# Altium schematic symbol library HDR_fszhang.SchLib: 49 symbols
Pins are listed as number, name and electrical type; pins without a type are passive.

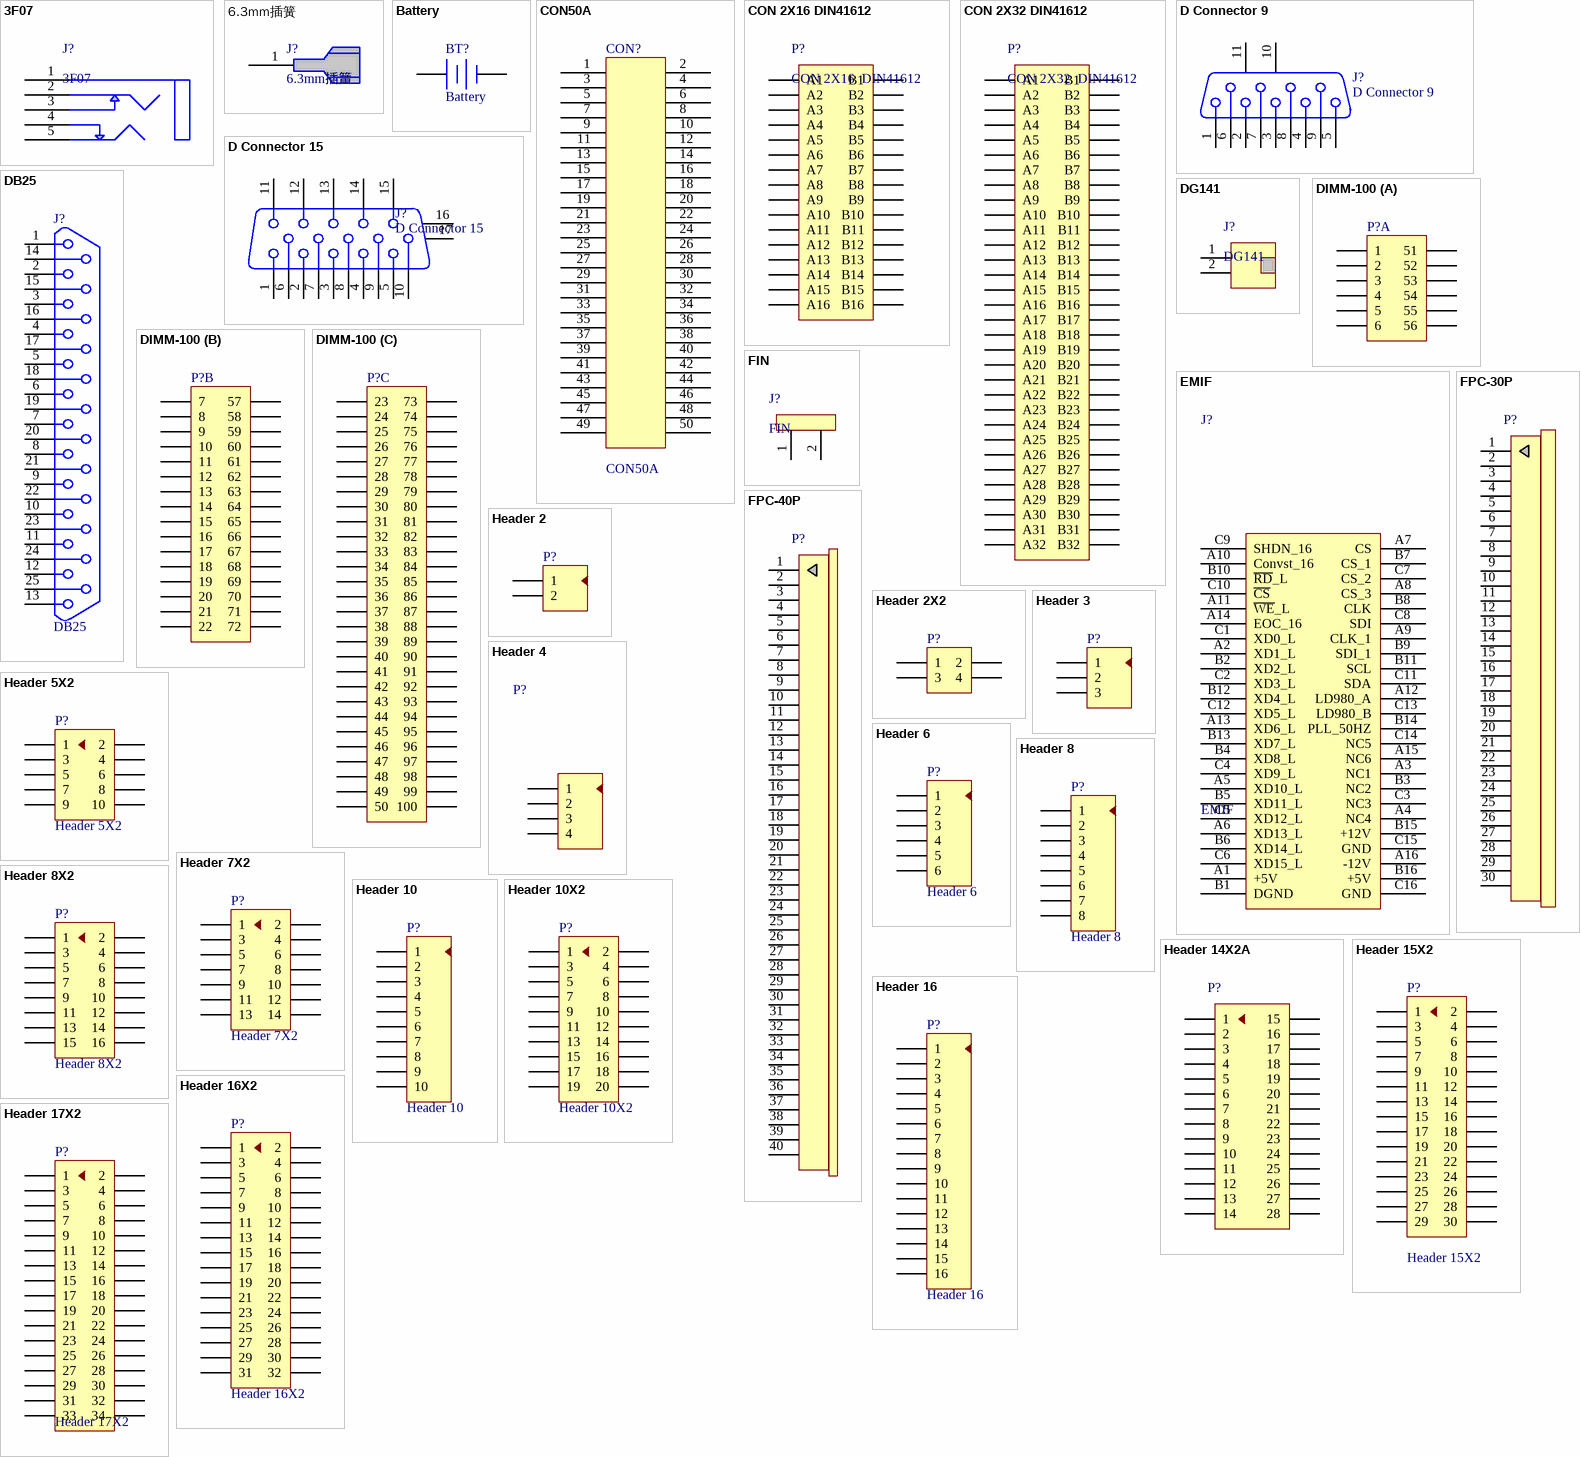
[diagram p0: symbols 3F07 to Header 17X2]

## 3F07
designator J?
立体声耳机插座
footprint 3F07 (立体声耳机插座)
pins: 1 COM, 2 R1, 3 R2, 4 L2, 5 L1

## 6.3mm插簧
designator J?
pins: 1

## Battery
designator BT?
备份电池; Published: 24-Mar-1999; LatestRevisionDate: 17-Jul-2002; LatestRevisionNote: Re-released for DXP Platform.; PackageReference: BAT-2; Publisher: Altium Limited
footprint CR1220 (钮扣电池)
pins: 1 +, 2 -

## CON50A
designator CON?
Remark: 0.5mm 50P B2B 3.5mm合高 母头
footprint B2B_0D50_50P_MALE
pins: 1, 2, 3, 4, 5, 6, 7, 8, 9, 10, 11, 12, 13, 14, 15, 16, 17, 18, 19, 20, 21, 22, 23, 24, 25, 26, 27, 28, 29, 30, 31, 32, 33, 34, 35, 36, 37, 38, 39, 40, 41, 42, 43, 44, 45, 46, 47, 48, 49, 50
2 alternate drawings of the same symbol

## CON 2X16 DIN41612
designator P?, comment CON 2X16  DIN41612
DIN 41612
footprint EURO2.54-2H32D (Connector; DIN 41612, Type 2B, Thru-Hole; Rows a+b, 32 Position; Right Angle)
footprint EURO2.54-2V32B (Connector; DIN 41612, Type 2B, Thru-Hole; Rows a+b, 32 Position; Vertical)
pins: A1, A2, A3, A4, A5, A6, A7, A8, A9, A10, A11, A12, A13, A14, A15, A16, B1, B2, B3, B4, B5, B6, B7, B8, B9, B10, B11, B12, B13, B14, B15, B16

## CON 2X32 DIN41612
designator P?, comment CON 2X32  DIN41612
DIN 41612
footprint EURO2.54-2H64A (Connector; DIN 41612, Type B, Thru-Hole; Rows a+b, 64 Position; Right Angle)
footprint EURO2.54-2V64A (Connector; DIN 41612, Type B, Thru-Hole; Rows a+b, 64 Position; Vertical)
pins: A1, A2, A3, A4, A5, A6, A7, A8, A9, A10, A11, A12, A13, A14, A15, A16, A17, A18, A19, A20, A21, A22, A23, A24, A25, A26, A27, A28, A29, A30, A31, A32, B1, B2, B3, B4, B5, B6, B7, B8, B9, B10, B11, B12, B13, B14, B15, B16, B17, B18, B19, B20, B21, B22, B23, B24, B25, B26, B27, B28, B29, B30, B31, B32

## D Connector 9
designator J?
串口; PackageDocument: O; Positions: 9; Gender: Receptacle; Published: 15-Jun-2001; LatestRevisionDate: 17-Jul-2002; LatestRevisionNote: Re-released for DXP Platform.; DatasheetDocument: 1-Sep-1999; PackageReference: 788750; Publisher: Altium Limited; Orientation: Right Angle
footprint DB9-M (DB9公座)
footprint DB9-F (DB9母座)
pins: 1, 2, 3, 4, 5, 6, 7, 8, 9, 10 MH1, 11 MH2

## D Connector 15
designator J?
VGA; PackageDocument: O; Positions: 9; Gender: Receptacle; Published: 15-Jun-2001; LatestRevisionDate: 17-Jul-2002; LatestRevisionNote: Re-released for DXP Platform.; DatasheetDocument: 1-Sep-1999; PackageReference: 788750; Publisher: Altium Limited; Orientation: Right Angle
footprint DB15-M (VGA公)
footprint DB15-F (VGA母)
pins: 1, 2, 3, 4, 5, 6, 7, 8, 9, 10, 11, 12, 13, 14, 15, 16 MH2, 17 MH1

## DB25
designator J?
并口
footprint DB25
pins: 1, 2, 3, 4, 5, 6, 7, 8, 9, 10, 11, 12, 13, 14, 15, 16, 17, 18, 19, 20, 21, 22, 23, 24, 25

## DG141
designator J?
footprint DG141R-2.54 (接线端子)
pins: 1, 2

## DIMM-100
designator P?  (value not drawn)
接插件; LatestRevisionDate: 17-Jul-2002; LatestRevisionNote: Re-released for DXP Platform.; Publisher: Altium Limited
footprint DIMM1.27-100
part A pins: 1, 2, 3, 4, 5, 6, 51, 52, 53, 54, 55, 56
part B pins: 7, 8, 9, 10, 11, 12, 13, 14, 15, 16, 17, 18, 19, 20, 21, 22, 57, 58, 59, 60, 61, 62, 63, 64, 65, 66, 67, 68, 69, 70, 71, 72
part C pins: 23, 24, 25, 26, 27, 28, 29, 30, 31, 32, 33, 34, 35, 36, 37, 38, 39, 40, 41, 42, 43, 44, 45, 46, 47, 48, 49, 50, 73, 74, 75, 76, 77, 78, 79, 80, 81, 82, 83, 84, 85, 86, 87, 88, 89, 90, 91, 92, 93, 94, 95, 96, 97, 98, 99, 100

## EMIF
designator J?
接插件
footprint HDR16X3_HA
footprint HDR16X3_HB
pins: A1 +5V, A2 XD1_L, A3 NC1, A4 NC4, A5 XD10_L, A6 XD13_L, A7 CS, A8 CS_3, A9 CLK_1, A10 Convst_16, A11 ~{WE}_L, A12 LD980_A, A13 XD6_L, A14 EOC_16, A15 NC6, A16 -12V, B1 DGND, B2 XD2_L, B3 NC2, B4 XD8_L, B5 XD11_L, B6 XD14_L, B7 CS_1, B8 CLK, B9 SDI_1, B10 ~{RD}_L, B11 SCL, B12 XD4_L, B13 XD7_L, B14 PLL_50HZ, B15 +12V, B16 +5V, C1 XD0_L, C2 XD3_L, C3 NC3, C4 XD9_L, C5 XD12_L, C6 XD15_L, C7 CS_2, C8 SDI, C9 SHDN_16, C10 ~{CS}, C11 SDA, C12 XD5_L, C13 LD980_B, C14 NC5, C15 GND, C16 GND

## FIN
designator J?
散热片
footprint FIN-P2
pins: 1, 2

## FPC-30P
designator P?, comment FPC  (value not drawn)
FPC排线连接器
footprint FPC0.8-30P-A (FPC0.8mm接口)
pins: 1, 2, 3, 4, 5, 6, 7, 8, 9, 10, 11, 12, 13, 14, 15, 16, 17, 18, 19, 20, 21, 22, 23, 24, 25, 26, 27, 28, 29, 30

## FPC-40P
designator P?, comment FPC  (value not drawn)
FPC排线连接器
footprint FPC0.5-40P-A
pins: 1, 2, 3, 4, 5, 6, 7, 8, 9, 10, 11, 12, 13, 14, 15, 16, 17, 18, 19, 20, 21, 22, 23, 24, 25, 26, 27, 28, 29, 30, 31, 32, 33, 34, 35, 36, 37, 38, 39, 40

## Header 2
designator P?  (value not drawn)
接插件; LatestRevisionDate: 17-Jul-2002; LatestRevisionNote: Re-released for DXP Platform.; Publisher: Altium Limited
footprint KF2.54-2P (KF2.54端子)
footprint HDR2X1-2.54 (2.54单排针排座)
footprint XH2.54-2PH (XH2.54端子弯针)
footprint XH2.54-2P (XH2.54端子直针)
footprint EDSTLZ1550-2P (3.81mm接插件)
footprint KF7.62-2P (KF7.62端子)
pins: 1, 2

## Header 2X2
designator P?  (value not drawn)
接插件; LatestRevisionDate: 17-Jul-2002; LatestRevisionNote: Re-released for DXP Platform.; Publisher: Altium Limited
footprint HDR2X2-2.54 (2.54双排针排座)
pins: 1, 2, 3, 4

## Header 3
designator P?  (value not drawn)
接插件; LatestRevisionDate: 17-Jul-2002; LatestRevisionNote: Re-released for DXP Platform.; Publisher: Altium Limited
footprint XH2.54-3P (XH2.54端子直针)
footprint HDR3X1-2.54 (2.54单排针排座)
footprint KF2EDG5.08 (5.08mm端子)
footprint KF2EDG5.08H (5.08mm端子)
footprint VH3.96-3P (VH3.96接插件)
footprint EDSTLZ1550-3P (3.81mm接插件)
footprint KF2.54-3P (KF2.54端子)
pins: 1, 2, 3

## Header 4
designator P?  (value not drawn)
接插件; LatestRevisionDate: 17-Jul-2002; LatestRevisionNote: Re-released for DXP Platform.; Publisher: Altium Limited
footprint XH2.54-4P (XH2.54端子直针)
footprint XH2.54-4PH (XH2.54端子弯针)
footprint EDSTLZ1550-4P (3.81mm接插件)
footprint PH1.25-4P (PH1.25端子)
footprint HDR4X1-2.54 (2.54单排针排座)
pins: 1, 2, 3, 4

## Header 5X2
designator P?
接插件; LatestRevisionDate: 17-Jul-2002; LatestRevisionNote: Re-released for DXP Platform.; Publisher: Altium Limited
footprint HDR5X2-2.54 (2.54双排针排座)
footprint DC3-10P-2.0mm (简易牛角座直)
footprint DC3-10P-2.54mm (简易牛角座直)
footprint DC3-10PL-2.54mm (简易牛角座弯)
pins: 1, 2, 3, 4, 5, 6, 7, 8, 9, 10

## Header 6
designator P?
接插件; LatestRevisionDate: 17-Jul-2002; LatestRevisionNote: Re-released for DXP Platform.; Publisher: Altium Limited
footprint VH3.96-6P (CH3.96接插件)
footprint HDR6X1-2.54 (2.54单排针排座)
pins: 1, 2, 3, 4, 5, 6

## Header 7X2
designator P?
接插件; LatestRevisionDate: 17-Jul-2002; LatestRevisionNote: Re-released for DXP Platform.; Publisher: Altium Limited
footprint HDR7X2-2.54 (2.54双排针排座)
footprint DC3-14P-2.54mm (简易牛角座直)
footprint DC3-14P-2.0mm (简易牛角座直)
pins: 1, 2, 3, 4, 5, 6, 7, 8, 9, 10, 11, 12, 13, 14

## Header 8
designator P?
接插件; LatestRevisionDate: 17-Jul-2002; LatestRevisionNote: Re-released for DXP Platform.; Publisher: Altium Limited
footprint PH2.0-8P (PH2.0端子)
pins: 1, 2, 3, 4, 5, 6, 7, 8

## Header 8X2
designator P?
接插件; LatestRevisionDate: 17-Jul-2002; LatestRevisionNote: Re-released for DXP Platform.; Publisher: Altium Limited
footprint HDR8X2-2.54 (2.54双排针排座)
footprint HDR8X2_E1
footprint DC3-16PL-2.54MM (2.54双排针排座)
footprint DC3-16P-2.54mm (简易牛角座直)
pins: 1, 2, 3, 4, 5, 6, 7, 8, 9, 10, 11, 12, 13, 14, 15, 16

## Header 10
designator P?
接插件; LatestRevisionDate: 17-Jul-2002; LatestRevisionNote: Re-released for DXP Platform.; Publisher: Altium Limited
footprint PH2.0-10P
pins: 1, 2, 3, 4, 5, 6, 7, 8, 9, 10

## Header 10X2
designator P?
接插件; LatestRevisionDate: 17-Jul-2002; LatestRevisionNote: Re-released for DXP Platform.; Publisher: Altium Limited
footprint HDR10X2-2.54 (2.54双排针排座)
footprint DC3-20P-2.0mm (简易牛角座直)
footprint DC3-20P-2.54mm (简易牛角座直)
pins: 1, 2, 3, 4, 5, 6, 7, 8, 9, 10, 11, 12, 13, 14, 15, 16, 17, 18, 19, 20

## Header 14X2A
designator P?  (value not drawn)
接插件
footprint HDR14X2A-2.54 (2.54双排针排座)
pins: 1 (power), 2 (power), 3 (power), 4 (power), 5 (power), 6 (power), 7 (power), 8 (power), 9 (power), 10 (power), 11 (power), 12 (power), 13 (power), 14 (power), 15 (power), 16 (power), 17 (power), 18 (power), 19 (power), 20 (power), 21 (power), 22 (power), 23 (power), 24 (power), 25 (power), 26 (power), 27 (power), 28 (power)

## Header 15X2
designator P?
接插件; LatestRevisionDate: 17-Jul-2002; LatestRevisionNote: Re-released for DXP Platform.; Publisher: Altium Limited
footprint HDR15X2-2.54-SMD (2.54双排针排座)
footprint HDR15X2-2.54 (Connector; Header; 15x2 Position)
pins: 1, 2, 3, 4, 5, 6, 7, 8, 9, 10, 11, 12, 13, 14, 15, 16, 17, 18, 19, 20, 21, 22, 23, 24, 25, 26, 27, 28, 29, 30

## Header 16
designator P?
接插件; LatestRevisionDate: 17-Jul-2002; LatestRevisionNote: Re-released for DXP Platform.; Publisher: Altium Limited
footprint HDR16X1-2.54 (2.54单排针排座)
footprint FPC1.0-16P-A (FPC)
pins: 1, 2, 3, 4, 5, 6, 7, 8, 9, 10, 11, 12, 13, 14, 15, 16

## Header 16X2
designator P?
接插件; LatestRevisionDate: 17-Jul-2002; LatestRevisionNote: Re-released for DXP Platform.; Publisher: Altium Limited
footprint HDR16X2-2.54 (2.54双排针排座)
footprint DC3-32P-2.54MM (2.54简易牛角座)
pins: 1, 2, 3, 4, 5, 6, 7, 8, 9, 10, 11, 12, 13, 14, 15, 16, 17, 18, 19, 20, 21, 22, 23, 24, 25, 26, 27, 28, 29, 30, 31, 32

## Header 17X2
designator P?
接插件; LatestRevisionDate: 17-Jul-2002; LatestRevisionNote: Re-released for DXP Platform.; Publisher: Altium Limited
footprint DC3-34P-2.54MM (2.54简易牛角座)
pins: 1, 2, 3, 4, 5, 6, 7, 8, 9, 10, 11, 12, 13, 14, 15, 16, 17, 18, 19, 20, 21, 22, 23, 24, 25, 26, 27, 28, 29, 30, 31, 32, 33, 34

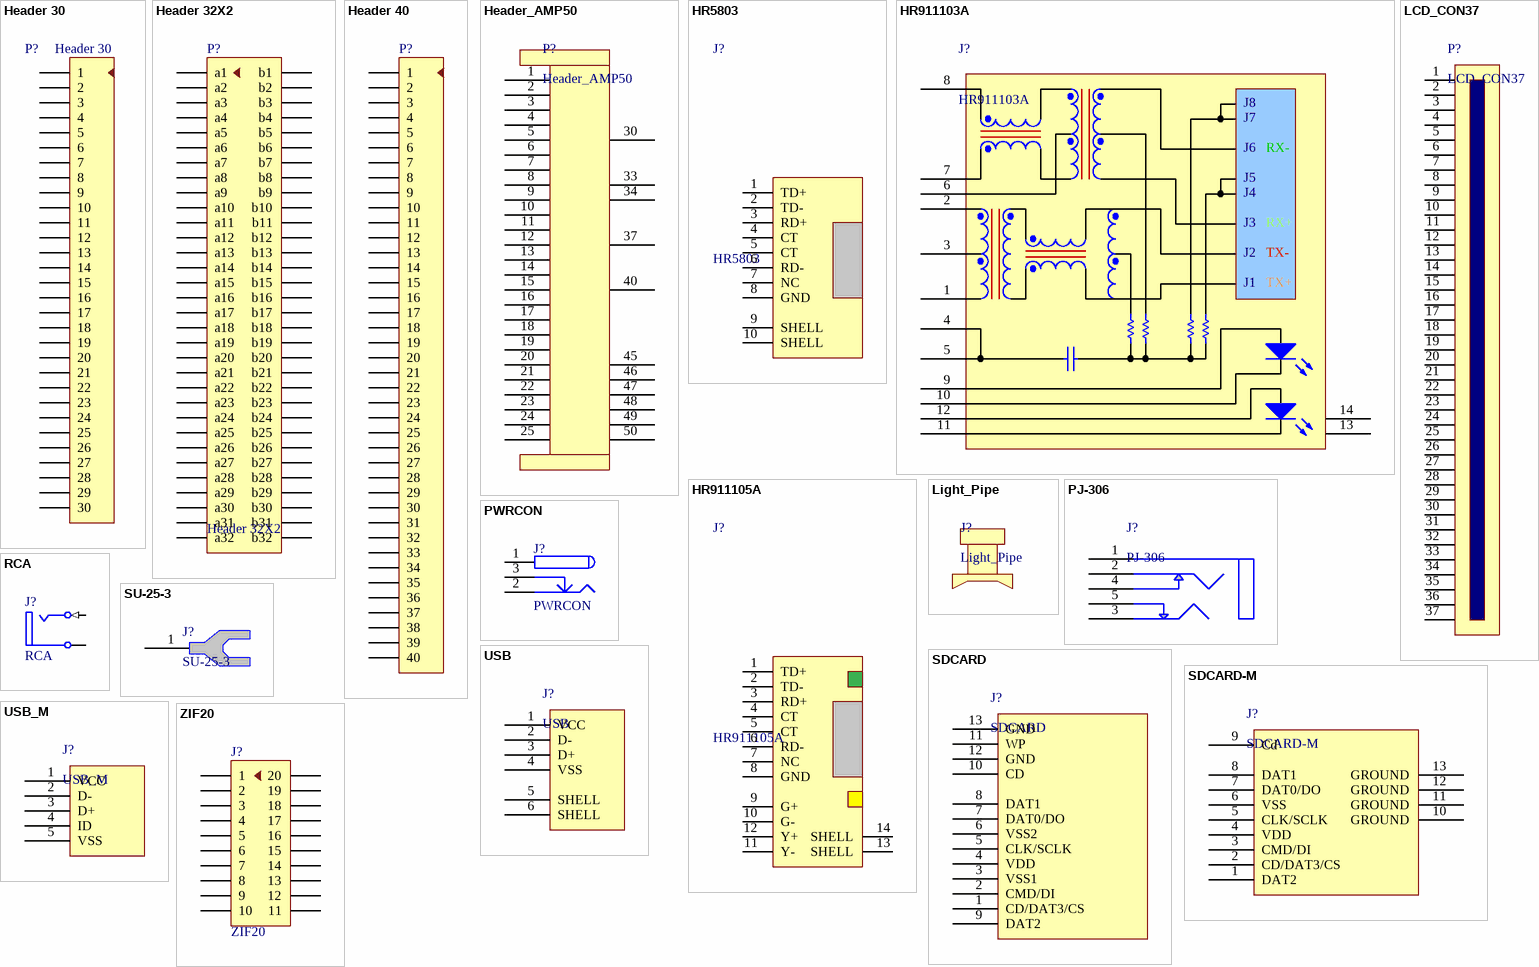
[diagram p1: symbols Header 30 to ZIF20]

## Header 30
designator P?
接插件; LatestRevisionDate: 17-Jul-2002; LatestRevisionNote: Re-released for DXP Platform.; Publisher: Altium Limited
footprint HDR30X1-2.54 (Connector; Header; 30 Position)
pins: 1, 2, 3, 4, 5, 6, 7, 8, 9, 10, 11, 12, 13, 14, 15, 16, 17, 18, 19, 20, 21, 22, 23, 24, 25, 26, 27, 28, 29, 30

## Header 32X2
designator P?
接插件; LatestRevisionDate: 17-Jul-2002; LatestRevisionNote: Re-released for DXP Platform.; Publisher: Altium Limited
footprint HDR32X2_HA (Connector; Header; 30x2 Position)
footprint HDR32X2_HB (Connector; Header; 30x2 Position)
pins: a1, a2, a3, a4, a5, a6, a7, a8, a9, a10, a11, a12, a13, a14, a15, a16, a17, a18, a19, a20, a21, a22, a23, a24, a25, a26, a27, a28, a29, a30, a31, a32, b1, b2, b3, b4, b5, b6, b7, b8, b9, b10, b11, b12, b13, b14, b15, b16, b17, b18, b19, b20, b21, b22, b23, b24, b25, b26, b27, b28, b29, b30, b31, b32

## Header 40
designator P?  (value not drawn)
接插件; LatestRevisionDate: 17-Jul-2002; LatestRevisionNote: Re-released for DXP Platform.; Publisher: Altium Limited
footprint HDR40X1-2.54 (2.54单排针排座)
pins: 1, 2, 3, 4, 5, 6, 7, 8, 9, 10, 11, 12, 13, 14, 15, 16, 17, 18, 19, 20, 21, 22, 23, 24, 25, 26, 27, 28, 29, 30, 31, 32, 33, 34, 35, 36, 37, 38, 39, 40

## Header_AMP50
designator P?
控制器接插件
footprint HDR25X2_H (控制器接插件)
pins: 1, 2, 3, 4, 5, 6, 7, 8, 9, 10, 11, 12, 13, 14, 15, 16, 17, 18, 19, 20, 21, 22, 23, 24, 25, 30, 33, 34, 37, 40, 45, 46, 47, 48, 49, 50

## HR5803
designator J?
以太网接口
footprint RJ45-5803-10P8C
pins: 1 TD+, 2 TD-, 3 RD+, 4 CT, 5 CT, 6 RD-, 7 NC, 8 GND, 9 SHELL, 10 SHELL

## HR911103A
designator J?
网络接口; PackageDocument: 1988; Published: 24-Mar-1999; LatestRevisionDate: 17-Jul-2002; LatestRevisionNote: Re-released for DXP Platform.; PackageReference: 425; Publisher: Altium Limited
footprint RJ8-HR911103A (网线接口)
pins: 1 TD+, 2 TD-, 3 TD-, 4 TD-, 5 GND, 6 GND, 7 RD+, 8 RD-, 9 GLED+, 10 GLED-, 11 YLED-, 12 YLED+, 13, 14
text: J8; J7; J6; RX-; J5; J4; J3; RX+; J2; TX-; J1; TX+

## HR911105A
designator J?
以太网接口
footprint RJ8-HR911105B (网络)
footprint RJ8-HR911105A
pins: 1 TD+, 2 TD-, 3 RD+, 4 CT, 5 CT, 6 RD-, 7 NC, 8 GND, 9 G+, 10 G-, 11 Y-, 12 Y+, 13 SHELL, 14 SHELL

## LCD_CON37
designator P?
LCD接口
footprint HDR37X1_F
pins: 1, 2, 3, 4, 5, 6, 7, 8, 9, 10, 11, 12, 13, 14, 15, 16, 17, 18, 19, 20, 21, 22, 23, 24, 25, 26, 27, 28, 29, 30, 31, 32, 33, 34, 35, 36, 37

## Light_Pipe
designator J?
灯柱
footprint LIGHT_PIPE
footprint LENS_CAP

## PJ-306
designator J?
立体声耳机插座
footprint PJ-315-B (立体声耳机插座)
footprint PJ-306 (立体声耳机插座)
footprint 3F07 (立体声耳机插座)
pins: 1 COM, 2 L, 3 R, 4 L1, 5 R1

## PWRCON
designator J?
直流电源端子; Published: 17-Dec-2003; DatasheetDocument: 09-May-2002; Publisher: Altium Limited; ComponentLink1Description: Manufacturer Link; ComponentLink1URL: http://domino.kycon.com/internet/Products.html
footprint DC-005 (DC母座5.5mm)
footprint DC-002 (DC母座3.5mm)
pins: 1 (power), 2 (power), 3 (power)

## RCA
designator J?
RCA Phono Jack; PCB_Layout: Complies with manufacturer's recommendation.; DrillAndSlotSize: Corresponds to nominal value.; Published: 15-Jul-2004; LatestRevisionDate: 15-Jul-2004; LatestRevisionNote: Component Replaced.; DatasheetDocument: 7-Jul-2000; PackageDocument: 7-Jul-2000; PackageReference: 161; Publisher: Altium Limited; ComponentLink1Description: Manufacturer Link; ComponentLink1URL: http://www.mouser.com/kobiconn/
footprint RCA/4.5-H2 (Two Conductor Jack (RCA))
footprint RCJ-04X (Two Conductor Jack (RCA))
pins: 1A Ground (power) "Outer Shield (Sleeve)", 2B Signal (in) "Center Pin (Plug Tip)"

## SDCARD
designator J?
SD卡自弹
footprint SDCARD_B (SD卡自弹)
pins: 1 CD/DAT3/CS, 2 CMD/DI, 3 VSS1, 4 VDD, 5 CLK/SCLK, 6 VSS2, 7 DAT0/DO, 8 DAT1, 9 DAT2, 10 CD, 11 WP, 12 GND, 13 GND

## SDCARD-M
designator J?
TF卡槽
footprint SDCARD-M (TF卡)
pins: 1 DAT2, 2 CD/DAT3/CS, 3 CMD/DI, 4 VDD, 5 CLK/SCLK, 6 VSS, 7 DAT0/DO, 8 DAT1, 9 Cd, 10 GROUND, 11 GROUND, 12 GROUND, 13 GROUND

## SU-25-3
designator J?
接线叉
pins: 1

## USB
designator J?
USB接口
footprint USB_B1 (USB方?)
footprint USB_A1
footprint USB_C1 (侧卧USB)
pins: 1 VCC, 2 D- , 3 D+, 4 VSS, 5 SHELL, 6 SHELL

## USB_M
designator J?
Micro/Mini USB
footprint USB_MICRO (USB方孔)
footprint USB/SM0.8-6H5 (Connector; USB2.0, Type B, SM; 5 Position; Right Angle)
pins: 1 VCC, 2 D- , 3 D+, 4 ID, 5 VSS

## ZIF20
designator J?
接插件; LatestRevisionDate: 17-Jul-2002; LatestRevisionNote: Re-released for DXP Platform.; Publisher: Altium Limited
footprint ZIF20
pins: 1, 2, 3, 4, 5, 6, 7, 8, 9, 10, 11, 12, 13, 14, 15, 16, 17, 18, 19, 20